# Altium schematic symbol library ATtiny.SchLib: 1 symbol
Pins are listed as number, name and electrical type; pins without a type are passive.

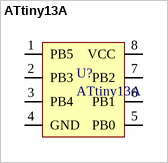
[diagram p0: symbol ATtiny13A]

## ATtiny13A
designator U?
Manufacturer: Microchip Technology; Manufacturer Part Number: ATTINY13A-SSU; Core Processor: AVR; Core Size: 8-Bit; Speed: 20MHz; Peripherals: Brown-out Detect/Reset, POR, PWM, WDT; Number of I/O: 6; Program Memory Size: 1KB (512 x 16); Program Memory Type: FLASH; EEPROM Size: 64 x 8; Voltage - Supply (Vcc/Vdd): 1.8 V ~ 5.5 V; Data Converters: A/D 4x10b; Oscillator Type: Internal; Supplier 1: Digi-Key; Pricing 1: 1=0.89, 25=0.8096, 100=0.7319 (CAD); Packaging: Tube; Part Status: Active; Connectivity: -; RAM Size: 64 x 8; Operating Temperature: -40°C ~ 85°C (TA); Package / Case: 8-SOIC (0.154", 3.90mm Width); Supplier Device Package: 8-SOIC; ComponentLink1URL: http://ww1.microchip.com/downloads/en/devicedoc/8126s.pdf; ComponentLink1Description: http://ww1.microchip.com/downloads/en/devicedoc/8126s.pdf; Supplier Part Number 1: ATTINY13A-SSU-ND
footprint ATtiny13A
pins: 1 PB5 "PCINT5/RESET/ADC0/dW", 2 PB3 "PCINT3/CLKI/ADC3", 3 PB4 "PCINT4/ADC2", 4 GND, 5 PB0 "MOSI/AIN0/OC0A/PCINT0", 6 PB1 "MISO/AIN1/OC0B/INT0/PCINT1", 7 PB2 "SCK/ADC1/T0/PCINT2", 8 VCC